# EAGLE library part CP2102N-A02-GQFN24R (library cp2102)
usb-to-uart
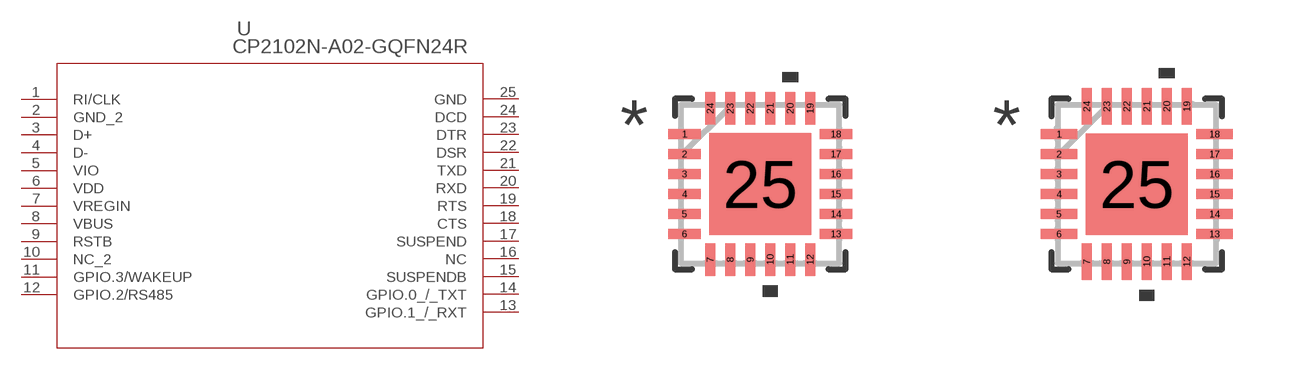
[diagram p0: symbol with the pads of QFN24_SIL; footprints QFN24_SIL, QFN24_SIL-M]

Designator prefix U

## CP2102N-A02-GQFN24R (COPYRIGHT: Copyright (C) 2021 Ultra Librarian. All rights reserved.; MANUFACTURER_PART_NUMBER: CP2102N-A02-GQFN24R; MFR_NAME: Silicon Labs)  [QFN24_SIL]
1  RI/CLK
2  GND_2  pas
3  D+
4  D-
5  VIO  pwr
6  VDD  pwr
7  VREGIN  pwr
8  VBUS  in
9  RSTB  pas
10  NC_2  nc
11  GPIO.3/WAKEUP
12  GPIO.2/RS485
13  GPIO.1_/_RXT
14  GPIO.0_/_TXT
15  SUSPENDB  out
16  NC  nc
17  SUSPEND  out
18  CTS  in
19  RTS  out
20  RXD  in
21  TXD  out
22  DSR  in
23  DTR  out
24  DCD  in
25  GND  pas

## CP2102N-A02-GQFN24RQFN24_SIL-M (COPYRIGHT: Copyright (C) 2021 Ultra Librarian. All rights reserved.; MANUFACTURER_PART_NUMBER: CP2102N-A02-GQFN24R; MFR_NAME: Silicon Labs)  [QFN24_SIL-M]
Pads as for QFN24_SIL

## CP2102N-A02-GQFN24RQFN24_SIL-L (COPYRIGHT: Copyright (C) 2021 Ultra Librarian. All rights reserved.; MANUFACTURER_PART_NUMBER: CP2102N-A02-GQFN24R; MFR_NAME: Silicon Labs)  [QFN24_SIL-L]
Pads as for QFN24_SIL

## Footprint QFN24_SIL (pad centres in mm)
smd 0.813 x 0.254: 1 -1.892,1.25; 2 -1.892,0.75; 3 -1.892,0.25; 4 -1.892,-0.25; 5 -1.892,-0.75; 6 -1.892,-1.25; 13 1.892,-1.25; 14 1.892,-0.75; 15 1.892,-0.25; 16 1.892,0.25; 17 1.892,0.75; 18 1.892,1.25
smd 0.254 x 0.813: 7 -1.25,-1.892; 8 -0.75,-1.892; 9 -0.25,-1.892; 10 0.25,-1.892; 11 0.75,-1.892; 12 1.25,-1.892; 19 1.25,1.892; 20 0.75,1.892; 21 0.25,1.892; 22 -0.25,1.892; 23 -0.75,1.892; 24 -1.25,1.892
smd 2.54 x 2.54: 25 0,0

## Footprint QFN24_SIL-M (pad centres in mm)
smd 0.914 x 0.254: 1 -1.943,1.25; 2 -1.943,0.75; 3 -1.943,0.25; 4 -1.943,-0.25; 5 -1.943,-0.75; 6 -1.943,-1.25; 13 1.943,-1.25; 14 1.943,-0.75; 15 1.943,-0.25; 16 1.943,0.25; 17 1.943,0.75; 18 1.943,1.25
smd 0.254 x 0.914: 7 -1.25,-1.943; 8 -0.75,-1.943; 9 -0.25,-1.943; 10 0.25,-1.943; 11 0.75,-1.943; 12 1.25,-1.943; 19 1.25,1.943; 20 0.75,1.943; 21 0.25,1.943; 22 -0.25,1.943; 23 -0.75,1.943; 24 -1.25,1.943
smd 2.54 x 2.54: 25 0,0

## Footprint QFN24_SIL-L (pad centres in mm)
smd 0.711 x 0.254: 1 -1.841,1.25; 2 -1.841,0.75; 3 -1.841,0.25; 4 -1.841,-0.25; 5 -1.841,-0.75; 6 -1.841,-1.25; 13 1.841,-1.25; 14 1.841,-0.75; 15 1.841,-0.25; 16 1.841,0.25; 17 1.841,0.75; 18 1.841,1.25
smd 0.254 x 0.711: 7 -1.25,-1.841; 8 -0.75,-1.841; 9 -0.25,-1.841; 10 0.25,-1.841; 11 0.75,-1.841; 12 1.25,-1.841; 19 1.25,1.841; 20 0.75,1.841; 21 0.25,1.841; 22 -0.25,1.841; 23 -0.75,1.841; 24 -1.25,1.841
smd 2.54 x 2.54: 25 0,0